# Altium schematic symbol library MaryLab Projets.SchLib: 44 symbols
Pins are listed as number, name and electrical type; pins without a type are passive.

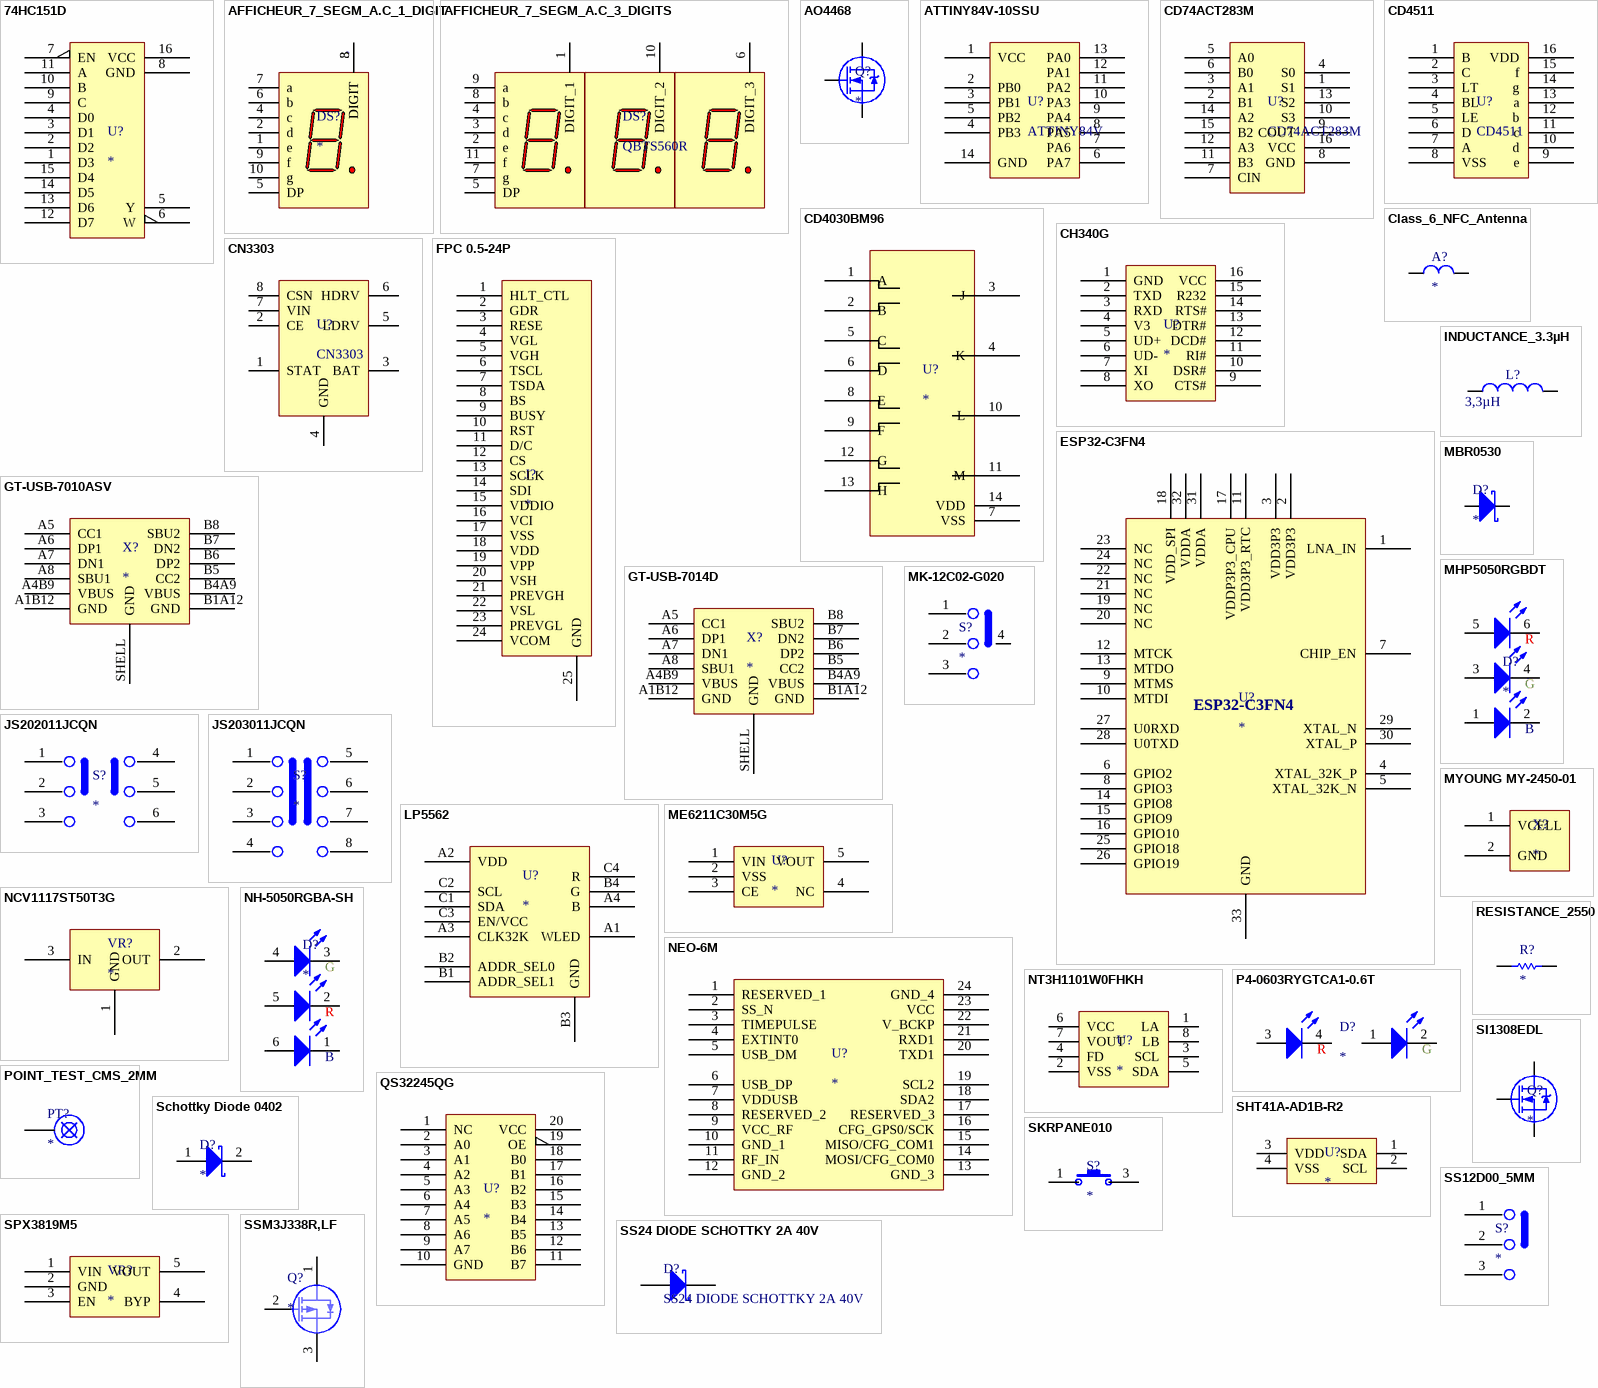
[diagram p0: symbols 74HC151D to SSM3J338R,LF]

## 74HC151D
designator U?
IC MULTIPLEXER 1 X 8:1; Type: SOIC-16
footprint 74HC151D (IC MULTIPLEXER 1 X 8:1)
pins: 1 D3, 2 D2, 3 D1, 4 D0, 5 Y, 6 W, 7 EN, 8 GND, 9 C, 10 B, 11 A, 12 D7, 13 D6, 14 D5, 15 D4, 16 VCC

## AFFICHEUR_7_SEGM_A.C_1_DIGIT
designator DS?
VDMR10A1 - DISPLAY 7SEG 0.39" SGL RED 10SMD; Type: SMD-10
footprint AFFICHEUR_7_SEGM_A.C_1_DIGIT (VDMR10A1 - DISPLAY 7SEG 0.39" SGL RED 10SMD)
pins: 1 e "Cathode", 2 d "Cathode", 3 DIGIT "Anode", 4 c "Cathode", 5 DP "Cathode", 6 b "Cathode", 7 a "Cathode", 8 DIGIT "Anode", 9 f "Cathode", 10 g "Cathode"
text: ,

## AFFICHEUR_7_SEGM_A.C_3_DIGITS
designator DS?, comment QBTS560R
0.56” Three Digit SMD Display Common Anode - QBTS560R
footprint AFFICHEUR_7_SEGM_A.C_3_DIGITS (0.56” Three Digit SMD Display Common Anode - QBTS560R)
pins: 1 DIGIT_1 "Anode", 2 e "Cathode", 3 d "Cathode", 4 c "Cathode", 5 DP "Cathode", 6 DIGIT_3 "Anode", 7 g "Cathode", 8 b "Cathode", 9 a "Cathode", 10 DIGIT_2 "Anode", 11 f "Cathode"

## AO4468
designator Q?
30V N-Channel MOSFET Boitier SOIC-8; Package: SOIC-8
footprint AO4468 (30V N-Channel MOSFET)
pins: D, G, S

## ATTINY84V-10SSU
designator U?, comment ATTINY84V
AVR series Microcontrôleurs IC 8 bits 10MHz 8Ko (4K x 16) FLASH 14-SOIC; Type: SOIC-14
footprint ATTINY84V-10SSU (AVR series Microcontrôleurs IC 8 bits 10MHz 8Ko (4K x 16) FLASH 14-SOIC)
pins: 1 VCC, 2 PB0, 3 PB1, 4 PB3, 5 PB2, 6 PA7, 7 PA6, 8 PA5, 9 PA4, 10 PA3, 11 PA2, 12 PA1, 13 PA0, 14 GND

## CD74ACT283M
designator U?
4-Bit Binary Fill Adder With Fast Carry; Type: SOIC-16
footprint CD74ACT283M (4-Bit Binary Fill Adder With Fast Carry)
pins: 1 S1, 2 B1, 3 A1, 4 S0, 5 A0, 6 B0, 7 CIN, 8 GND, 9 COUT, 10 S3, 11 B3, 12 A3, 13 S2, 14 A2, 15 B2, 16 VCC

## CD4030BM96
designator U?
IC GATE XOR 4CH 2-INP 14SOIC
footprint CD4030BM96 (IC GATE XOR 4CH 2-INP 14SOIC)
pins: 1 A, 2 B, 3 J, 4 K, 5 C, 6 D, 7 VSS, 8 E, 9 F, 10 L, 11 M, 12 G, 13 H, 14 VDD

## CD4511
designator U?
CMOS BCD to 7 Segment Latch Decoder Drivers; Type: SOP-16
footprint CD4511 (CMOS BCD to 7 Segment Latch Decoder Drivers)
pins: 1 B, 2 C, 3 LT, 4 BL, 5 LE, 6 D, 7 A, 8 VSS, 9 e, 10 d, 11 c, 12 b, 13 a, 14 g, 15 f, 16 VDD

## CH340G
designator U?
USB to serial chip CH340
footprint CH340G (USB to serial chip CH340)
pins: 1 GND, 2 TXD, 3 RXD, 4 V3, 5 UD+, 6 UD-, 7 XI, 8 XO, 9 CTS#, 10 DSR#, 11 RI#, 12 DCD#, 13 DTR#, 14 RTS#, 15 R232, 16 VCC

## Class_6_NFC_Antenna
designator A?
Class 6 NFC Antenna from NXP
footprint Class_6_NFC_Antenna (Class 6 NFC Antenna from NXP)
pins: 1, 2

## CN3303
designator U?
PFM Step-up 3-cell Lithium Battery Charger IC; Type: SOP-8
footprint CN3303
pins: 1 STAT, 2 CE, 3 BAT, 4 GND, 5 LDRV, 6 HDRV, 7 VIN, 8 CSN

## ESP32-C3FN4
designator U?
QFN-32 (5x5) - Ultra­Low­Power SoC with RISC­V Single­Core CPU / Supporting IEEE 802.11b/g/n (2.4 GHz Wi­Fi) and Bluetooth® 5 (LE)
footprint ESP32-C3FN4 (QFN-32 (5x5) - Ultra­Low­Power SoC with RISC­V Single­Core CPU  Supporting IEEE 802.11b/g/n (2.4 GHz Wi­Fi) and Bluetooth® 5 (LE))
pins: 1 LNA_IN, 2 VDD3P3, 3 VDD3P3, 4 XTAL_32K_P, 5 XTAL_32K_N, 6 GPIO2, 7 CHIP_EN, 8 GPIO3, 9 MTMS, 10 MTDI, 11 VDD3P3_RTC, 12 MTCK, 13 MTDO, 14 GPIO8, 15 GPIO9, 16 GPIO10, 17 VDDP3P3_CPU, 18 VDD_SPI, 19 NC, 20 NC, 21 NC, 22 NC, 23 NC, 24 NC, 25 GPIO18, 26 GPIO19, 27 U0RXD, 28 U0TXD, 29 XTAL_N, 30 XTAL_P, 31 VDDA, 32 VDDA, 33 GND

## FPC 0.5-24P
designator J?
Clamshell -25℃~+85℃ 24P Contact,Top Surface Mount 0.5mm SMD,P=0.5mm FFC/FPC Connectors ROHS
footprint FPC 0.5-24P (Clamshell -25?~+85? 24P Contact,Top Surface Mount 0.5mm SMD,P=0.5mm FFC/FPC Connectors ROHS)
pins: 1 HLT_CTL, 2 GDR, 3 RESE, 4 VGL, 5 VGH, 6 TSCL, 7 TSDA, 8 BS, 9 BUSY, 10 RST, 11 D/C, 12 CS, 13 SCLK, 14 SDI, 15 VDDIO, 16 VCI, 17 VSS, 18 VDD, 19 VPP, 20 VSH, 21 PREVGH, 22 VSL, 23 PREVGL, 24 VCOM, 25 GND, 26 GND

## GT-USB-7010ASV
designator X?
USB 2.0 3A 1 Surface Mount 16P Female -40℃~+85℃ Gold High Conductivity Copper Type-C SMD USB Connectors ROHS
footprint GT-USB-7010ASV (USB 2.0 3A 1 Surface Mount 16P Female -40?~+85? Gold High Conductivity Copper Type-C SMD USB Connectors ROHS)
pins: A1B12 GND, A4B9 VBUS, A5 CC1, A6 DP1, A7 DN1, A8 SBU1, B1A12 GND, B4A9 VBUS, B5 CC2, B6 DP2, B7 DN2, B8 SBU2, SHELL GND

## GT-USB-7014D
designator X?
Sink board - USB 2.0 5A 1 Sink board 16P Female -40℃~+85℃ Gold High Conductivity Copper Type-C SMD USB Connectors ROHS
footprint GT-USB-7014D (Sink board - USB 2.0 5A 1 Sink board 16P Female -40?~+85? Gold High Conductivity Copper Type-C SMD USB Connectors ROHS)
pins: A1B12 GND, A4B9 VBUS, A5 CC1, A6 DP1, A7 DN1, A8 SBU1, B1A12 GND, B4A9 VBUS, B5 CC2, B6 DP2, B7 DN2, B8 SBU2, SHELL GND

## INDUCTANCE_3.3µH
designator L?  value 3,3µH
INDUCTANCE_3.3µH WURTH / ISat = 5,9A / 74405042033
footprint INDUCTANCE_3,3µH
pins: 1, 2

## JS202011JCQN
designator S?
SWITCH SLIDE DPDT 300MA 6V
footprint JS202011JCQN (SWITCH SLIDE DPDT 300MA 6V)
pins: 1, 2, 3, 4, 5, 6

## JS203011JCQN
designator S?
SWITCH SLIDE DP3T 300MA 6V
footprint JS203011JCQN (SWITCH SLIDE DP3T 300MA 6V)
pins: 1, 2, 3, 4, 5 4, 6 5, 7, 8

## LP5562
designator U?
Four-Channel RGB- or White-LED Driver With Internal Program Memory / and Independent Channel Control
footprint LP5562 (Four-Channel RGB- or White-LED Driver With Internal Program Memory  and Independent Channel Control)
pins: A1 WLED, A2 VDD, A3 CLK32K, A4 B, B1 ADDR_SEL1, B2 ADDR_SEL0, B3 GND, B4 G, C1 SDA, C2 SCL, C3 EN/VCC, C4 R

## MBR0530
designator D?
30V 550mV@500mA 500mA SOD-123 Schottky Barrier Diodes (SBD) ROHS
footprint MBR0530 (30V 550mV@500mA 500mA SOD-123 Schottky Barrier Diodes (SBD) ROHS)
pins: 1, 2

## ME6211C30M5G
designator U?
LDO 3V3 500mA SOT-23-5
footprint ME6211C30M5G (LDO 3V3 500mA SOT-23-5)
pins: 1 VIN, 2 VSS, 3 CE, 4 NC, 5 VOUT

## MHP5050RGBDT
designator D?
White Diffused -40℃~+85℃ RGB SMD5050 Light Emitting Diodes (LED) ROHS
footprint MHP5050RGBDT (White Diffused -40?~+85? RGB SMD5050 Light Emitting Diodes (LED) ROHS)
pins: 1, 2, 3, 4, 5, 6
text: R; G; B

## MK-12C02-G020
designator S?
Surface Mount 1A SPDT 6V SMD
footprint MK-12C02-G020 (Surface Mount 1A SPDT 6V)
pins: 1, 2, 3, 4

## MYOUNG MY-2450-01
designator X?
Battery button CR2450 SMD Battery Connectors ROHS
footprint MYOUNG MY-2450-01 (Battery button CR2450 SMD Battery Connectors ROHS)
pins: 1 VCELL, 2 GND

## NCV1117ST50T3G
designator VR?
IC REG LINEAR 5V 1A SOT223; Type: SOT-223
footprint NCV1117ST50T3G (IC REG LINEAR 5V 1A SOT223)
pins: 1 GND, 2 OUT, 3 IN

## NEO-6M
designator U?
Ublox NEO-6M GPS Module
footprint NEO-6M (Ublox NEO-6M GPS Module)
pins: 1 RESERVED_1, 2 SS_N, 3 TIMEPULSE, 4 EXTINT0, 5 USB_DM, 6 USB_DP, 7 VDDUSB, 8 RESERVED_2, 9 VCC_RF, 10 GND_1, 11 RF_IN, 12 GND_2, 13 GND_3, 14 MOSI/CFG_COM0, 15 MISO/CFG_COM1, 16 CFG_GPS0/SCK, 17 RESERVED_3, 18 SDA2, 19 SCL2, 20 TXD1, 21 RXD1, 22 V_BCKP, 23 VCC, 24 GND_4

## NH-5050RGBA-SH
designator D?
SMD5050 LED RGB
footprint NH-5050RGBA-SH (SMD5050 LED RGB)
pins: 1, 2, 3, 4, 5, 6
text: G; R; B

## NT3H1101W0FHKH
designator U?
NTAG I2C - Energy harvesting NFC Forum Type 2 Tag with / field detection pin and I2C interface
footprint NT3H1101W0FHKH (NTAG I2C - Energy harvesting NFC Forum Type 2 Tag with  field detection pin and I2C interface)
pins: 1 LA, 2 VSS, 3 SCL, 4 FD, 5 SDA, 6 VCC, 7 VOUT, 8 LB

## P4-0603RYGTCA1-0.6T
designator D?
Double LED, colorless transparence -40℃~+85℃ Red, General Green/Yellow-Green 60mW 0603 Light Emitting Diodes (LED) ROHS
footprint P4-0603RYGTCA1-0.6T (Double LED, colorless transparence -40?~+85? Red, General Green/Yellow-Green 60mW 0603 Light Emitting Diodes (LED) ROHS)
pins: 1, 2, 3, 4
text: R; G

## POINT_TEST_CMS_2MM
designator PT?
footprint POINT_TEST_CMS_2MM (*)
pins: 1

## QS32245QG
designator U?
IC BUS SWITCH 1 X 8:1 20QSOP; Type: QSOP-20
footprint QS32245QG (IC BUS SWITCH 1 X 8:1 20QSOP)
pins: 1 NC, 2 A0, 3 A1, 4 A2, 5 A3, 6 A4, 7 A5, 8 A6, 9 A7, 10 GND, 11 B7, 12 B6, 13 B5, 14 B4, 15 B3, 16 B2, 17 B1, 18 B0, 19 OE, 20 VCC

## RESISTANCE_2550
designator R?
RESISTANCE CMS CURRENT SENSE BOITIER 2550
footprint RESISTANCE_2550 (RESISTANCE CMS CURRENT SENSE BOITIER 2550)
pins: 1, 2

## Schottky Diode 0402
designator D?
RB161QS-40T18R / 40V Single 600mV@1A 1A 0402 Schottky Barrier Diodes (SBD) ROHS
footprint Schottky Diode 0402 (RB161QS-40T18R  40V Single 600mV@1A 1A 0402 Schottky Barrier Diodes (SBD) ROHS)
pins: 1, 2

## SHT41A-AD1B-R2
designator U?
4th Gen Humidity and Temperature Sensor I2C
footprint SHT41A-AD1B-R2 (4th Gen Humidity and Temperature Sensor I2C)
pins: 1 SDA, 2 SCL, 3 VDD, 4 VSS

## SI1308EDL
designator Q?
SOT323 N-Channel MOSFET; ComponentLink1Description: LCSC; ComponentLink1URL: https://www.lcsc.com/product-detail/MOSFETs_TECH-PUBLIC-SI1308EDL_C7603347.html
footprint SI1308EDL (SOT323 N-Channel MOSFET)
pins: D, G, S

## SKRPANE010
designator S?
ALPSALPINE SKRPANE010 Push button
footprint SKRPANE010 (ALPSALPINE SKRPANE010 Push button)
pins: 1, 2, 3, 4

## SPX3819M5
designator VR?
IC REG LINEAR 5V 500MA SOT23-5
footprint SPX3819M5 (IC REG LINEAR 5V 500MA SOT23-5)
pins: 1 VIN, 2 GND, 3 EN, 4 BYP, 5 VOUT

## SS12D00_5MM
designator S?
SS12D00 - 5mm pin length / SMD footprint
footprint SS12D00_5MM (SS12D00 - 5mm pin length / SMD footprint)
pins: 1, 2, 3

## SS24 DIODE SCHOTTKY 2A 40V
designator D?
SS24 2A, 40V - 200V Schottky Barrier Surface Mount Rectifier; Type: SOD-123W; Value: 40V 2A
footprint SS24 DIODE SCHOTTKY 2A 40V (2A, 40V - 200V Schottky Barrier Surface Mount Rectifier)
pins: 1, 2

## SSM3J338R,LF
designator Q?
12V 6A 17.6mΩ@8V,6A 1W P Channel SOT-23(TO-236) MOSFETs ROHS
footprint SSM3J338R,LF (12V 6A 17.6mO@8V,6A 1W P Channel SOT-23(TO-236) MOSFETs ROHS)
pins: 1 D, 2 G, 3 S

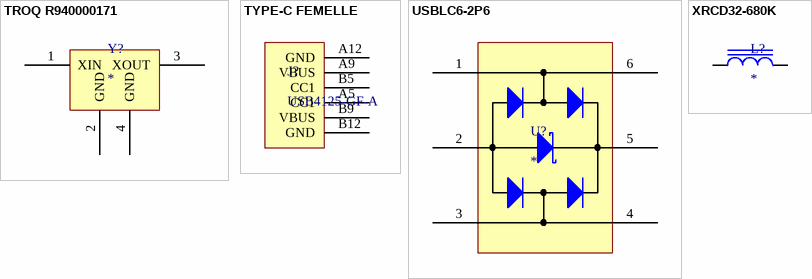
[diagram p1: symbols TROQ R940000171 to XRCD32-680K]

## TROQ R940000171
designator Y?
40MHz 9pF ±10ppm SMD2016-4P Crystals ROHS
footprint TROQ R940000171 (40MHz 9pF ±10ppm SMD2016-4P Crystals ROHS)
pins: 1 XIN, 2 GND, 3 XOUT, 4 GND

## TYPE-C FEMELLE
designator J?, comment USB4125-GF-A
CONN RCPT TYPE C 6P SMD RA
footprint TYPE-C FEMELLE (USB4125-GF-A / CONN RCPT TYPE C 6P SMD RA)
pins: A5 CC1, A9 VBUS, A12 GND, B5 CC1, B9 VBUS, B12 GND

## USBLC6-2P6
designator U?
SOT-563 ESD Protection Devices ROHS
footprint USBLC6-2P6 (SOT-563 ESD Protection Devices ROHS)
pins: 1 I/O1, 2 GND, 3 I/O2, 4 I/O2, 5 VBUS, 6 I/O1

## XRCD32-680K
designator L?
275mA 68uH ±10% 1.45Ω SMD,2.1x3mm Inductors (SMD) ROHS
footprint XRCD32-680K (275mA 68uH ±10% 1.45O SMD,2.1x3mm Inductors (SMD) ROHS)
pins: 1, 2